# Altium schematic symbol library Device.SchLib: 533 symbols (part 4 of 4)
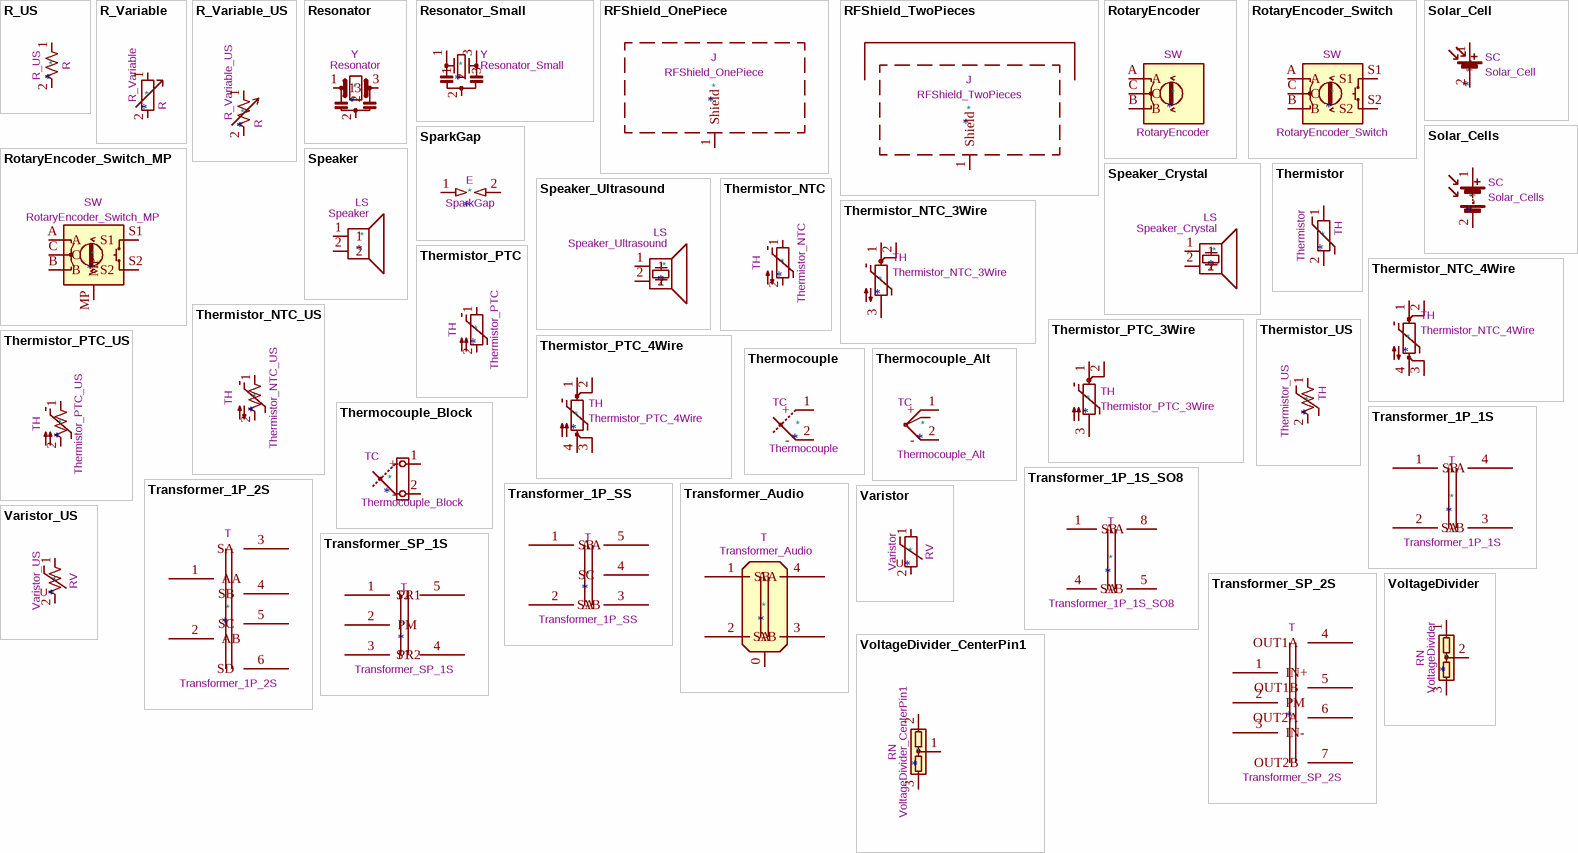
[diagram p21: symbols R_US to VoltageDivider_CenterPin1]

## Transformer_1P_2S
designator *  value Transformer_1P_2S  Reference: T
Transformer, single primary, dual secondary; ki_keywords: transformer coil magnet; Datasheet: ~; Description_: Transformer, single primary, dual secondary
pins: 1 AA, 2 AB, 3 SA, 4 SB, 5 SC, 6 SD

## Transformer_1P_SS
designator *  value Transformer_1P_SS  Reference: T
Transformer, single primary, split secondary; ki_keywords: transformer coil magnet; Datasheet: ~; Description_: Transformer, single primary, split secondary
pins: 1 AA, 2 AB, 3 SA, 4 SC, 5 SB

## Transformer_Audio
designator *  value Transformer_Audio  Reference: T
Audio transformer; ki_keywords: transformer coil magnet sound; Datasheet: ~; Description_: Audio transformer
pins: 0, 1 AA, 2 AB, 3 SA, 4 SB

## Transformer_SP_1S
designator *  value Transformer_SP_1S  Reference: T
Transformer, split primary, single secondary; ki_keywords: transformer coil magnet; Datasheet: ~; Description_: Transformer, split primary, single secondary
pins: 1 PR1, 2 PM, 3 PR2, 4 S1, 5 S2

## Transformer_SP_2S
designator *  value Transformer_SP_2S  Reference: T
Transformer, split primary, dual secondary; ki_keywords: transformer coil magnet; Datasheet: ~; Description_: Transformer, split primary, dual secondary
pins: 1 IN+, 2 PM, 3 IN-, 4 OUT1A, 5 OUT1B, 6 OUT2A, 7 OUT2B

## Varistor
designator *  value Varistor  Reference: RV
Voltage dependent resistor; Sim.Name: kicad_builtin_varistor; Sim.Device: SUBCKT; Sim.Pins: 1=A 2=B; Sim.Params: threshold=1k; Sim.Library: ${KICAD9_SYMBOL_DIR}/Simulation_SPICE.sp; ki_keywords: VDR resistance; ki_fp_filters: RV_* Varistor*; Datasheet: ~; Description_: Voltage dependent resistor
pins: 1, 2
text: U

## Varistor_US
designator *  value Varistor_US  Reference: RV
Voltage dependent resistor, US symbol; Sim.Name: kicad_builtin_varistor; Sim.Device: SUBCKT; Sim.Pins: 1=A 2=B; Sim.Params: threshold=1k; Sim.Library: ${KICAD9_SYMBOL_DIR}/Simulation_SPICE.sp; ki_keywords: VDR resistance; ki_fp_filters: RV_* Varistor*; Datasheet: ~; Description_: Voltage dependent resistor, US symbol
pins: 1, 2
text: U

## VoltageDivider
designator *  value VoltageDivider  Reference: RN
Voltage divider; ki_keywords: R network voltage divider; ki_fp_filters: R?Array?SIP* SOT?23; Datasheet: ~; Description_: Voltage divider
pins: 1, 2, 3

## VoltageDivider_CenterPin1
designator *  value VoltageDivider_CenterPin1  Reference: RN
Voltage divider, center on pin 1; ki_keywords: R network voltage divider; ki_fp_filters: R?Array?SIP* SOT?23; Datasheet: ~; Description_: Voltage divider, center on pin 1
pins: 1, 2, 3

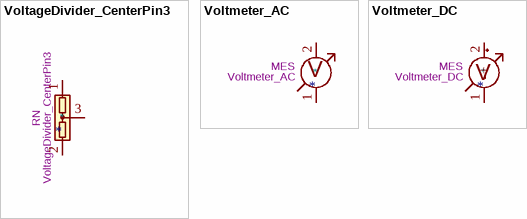
[diagram p18: symbols VoltageDivider_CenterPin3 to Voltmeter_DC]

## VoltageDivider_CenterPin3
designator *  value VoltageDivider_CenterPin3  Reference: RN
Voltage divider, center on pin 3; ki_keywords: R network voltage divider; ki_fp_filters: R?Array?SIP* SOT?23; Datasheet: ~; Description_: Voltage divider, center on pin 3
pins: 1, 2, 3

## Voltmeter_AC
designator *  value Voltmeter_AC  Reference: MES
AC voltmeter; ki_keywords: voltmeter AC; Datasheet: ~; Description_: AC voltmeter
pins: 1, 2
text: V

## Voltmeter_DC
designator *  value Voltmeter_DC  Reference: MES
DC voltmeter; ki_keywords: voltmeter DC; Datasheet: ~; Description_: DC voltmeter
pins: 1 -, 2 +
text: V